# EAGLE library part SD1602HULB(-XA-G-G) (library PartsForProto)
LCDモジュール ピッチ変換キット Ｉ２Ｃ接続小型キャラクタＬＣＤモジュール AE-AQM1602A ◆６６ｍｍ×２７．７ｍｍ２．０ｍｍ （画面５４．７ｍｍｘ１０．８ｍｍ） ◆電源電圧は３．１～５．５Ｖ ◆低消費電流です：１ｍＡ＠３．３Ｖ
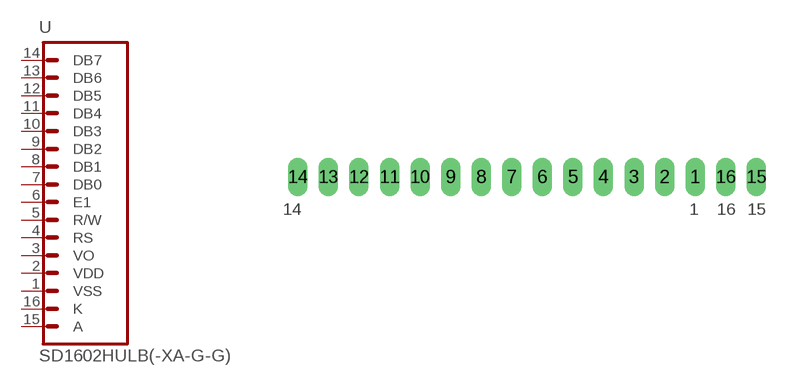
[diagram p0: symbol with the pads of HEADER_16PIN_SD1602; footprint HEADER_16PIN_SD1602]

Designator prefix U

## SD1602HULB(-XA-G-G)  [HEADER_16PIN_SD1602]
1  VSS  pas
2  VDD  pas
3  VO  pas
4  RS
5  R/W
6  E1
7  DB0
8  DB1
9  DB2
10  DB3
11  DB4
12  DB5
13  DB6
14  DB7
15  A  pas
16  K  pas

## Footprint HEADER_16PIN_SD1602 (pad centres in mm)
drill 1 pad 1.6 long: 1 33.02,0; 2 30.48,0; 3 27.94,0; 4 25.4,0; 5 22.86,0; 6 20.32,0; 7 17.78,0; 8 15.24,0; 9 12.7,0; 10 10.16,0; 11 7.62,0; 12 5.08,0; 13 2.54,0; 14 0,0; 15 38.1,0; 16 35.56,0